# Altium integrated library TI Power Management Power Modules.IntLib: 831 symbols (part 5 of 44)
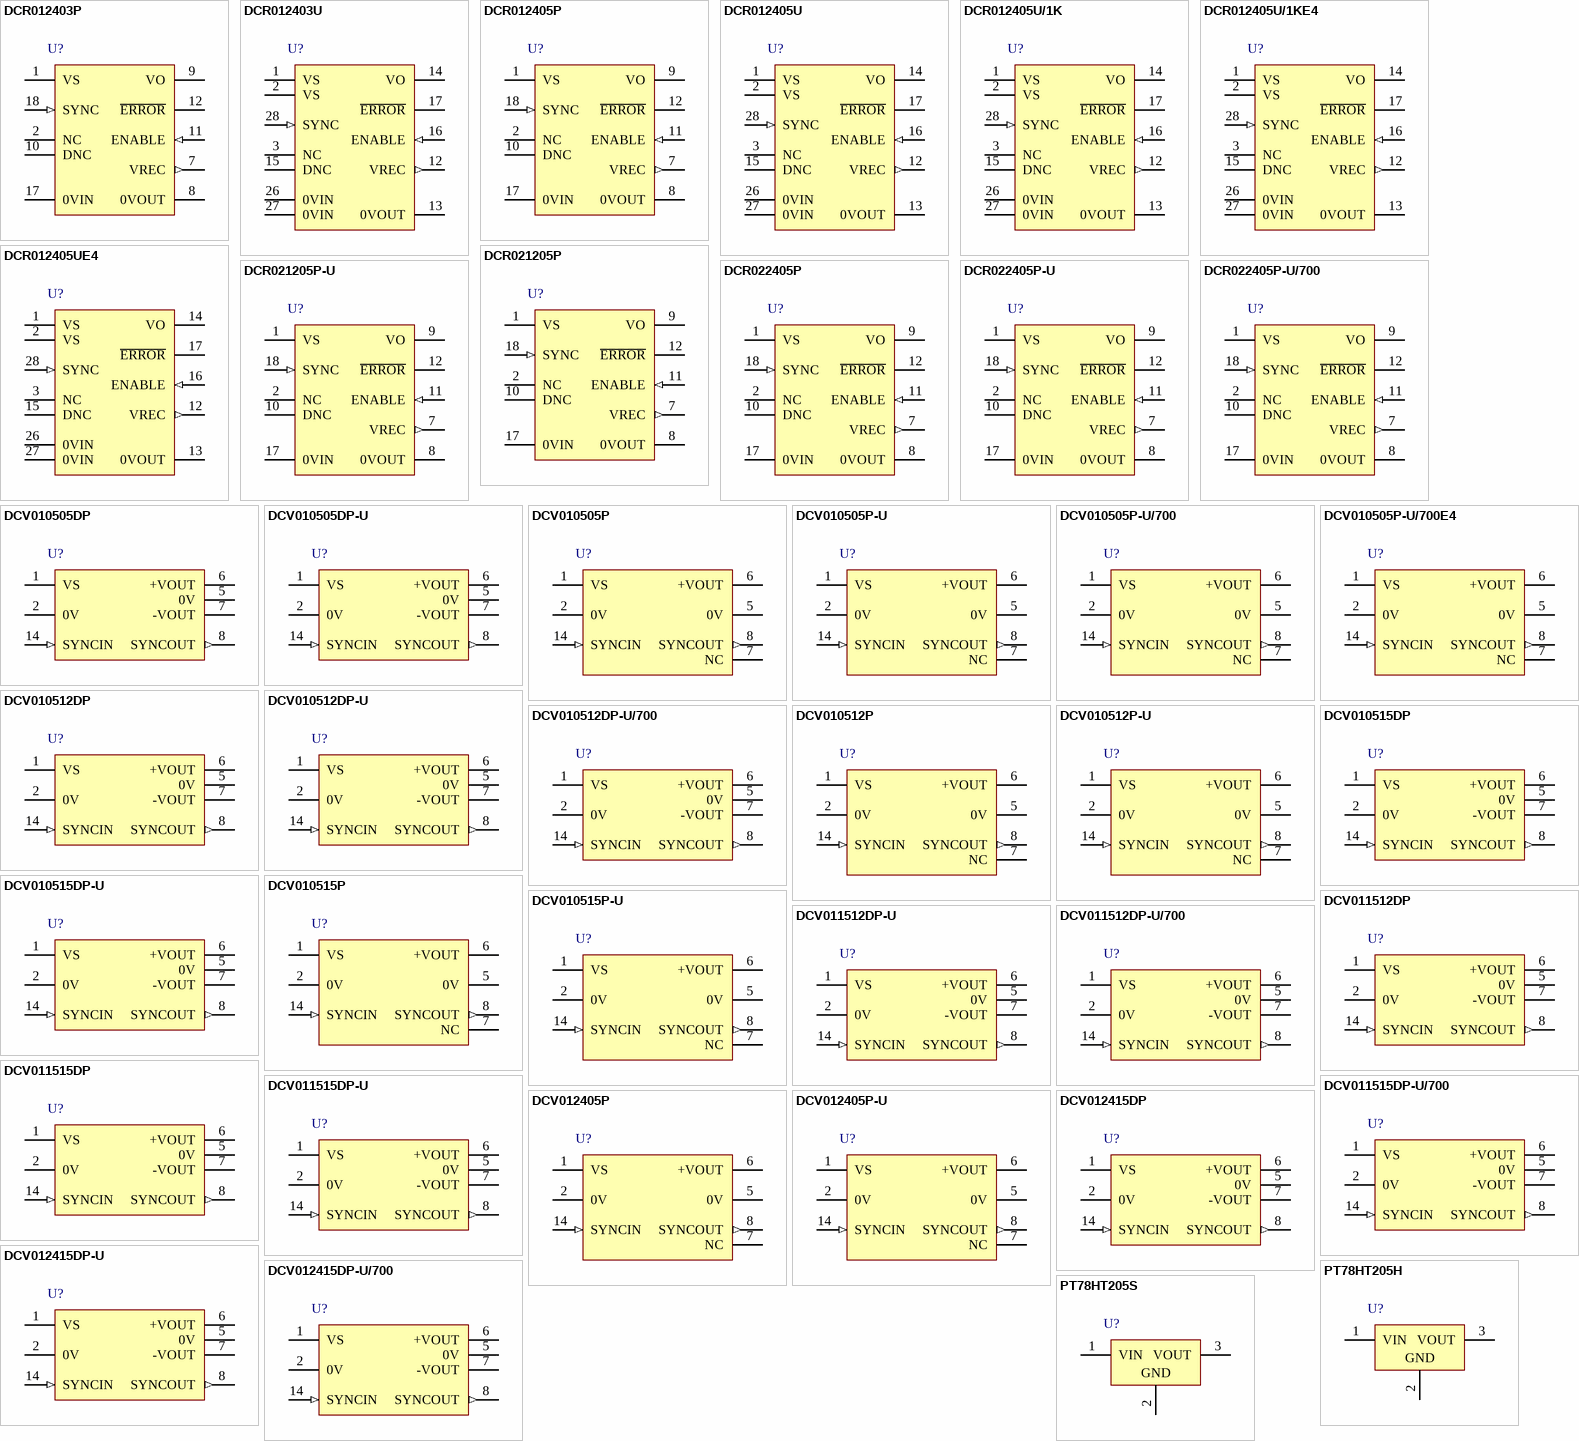
[diagram p27: symbols DCR012403P to PT78HT205S]

## DCV010505P-U/700
designator U?
Miniature, 1 W, 1500 Vrms Isolated Unregulated DC-DC Converter, -40 to 85 degC, 7-pin SOP (DUA7), Pb-Free (RoHS); Manufacturer: Texas Instruments; PartNumber: DCV010505P-U/700; Iout(Max)(A): 0.2; Regulated Outputs(#): 1; SubFamily: 1 W & 2 W Miniature; Vin(Max)(V): 5.5; Vin(Min)(V): 4.5; Vout(Max)(V): 5.25; Vout(Min)(V): 4.75; DatasheetVersion: SBVS014; PackageVersion: 4202490/B; PackageReference: DUA7; PackageDescription: 7-Pin Plastic Small Outline, Body 6.61 x 19.18 mm; Supplier 1: Digi-Key; Supplier Part Number 1: DCV010505P-U/700-ND; Supplier 2: Newark; Supplier Part Number 2: 74C9385; Supplier 3: Mouser; Supplier Part Number 3: 595-DCV010505P-U/700; Eco-Plan: Pb-Free (RoHS); Mounting Technology: Surface Mount; ComponentLink1Description: Manufacturer URL; ComponentLink1URL: http://www.ti.com/; ComponentLink2Description: Datasheet; ComponentLink2URL: http://www.ti.com/general/docs/lit/getliterature.tsp?genericPartNumber=DCV010505&fileType=pdf; ComponentLink3Description: Package Specification; ComponentLink3URL: http://www.ti.com/lit/ml/mpds097a/mpds097a.pdf; ComponentLink4Description: URL Link1; ComponentLink4URL: Samples URL:http://www.ti.com/product/dcv010505#samples
footprint TI-DUA7_N (SOP, 7-Leads, Body 19.18x6.605mm, Pitch 2.54mm, IPC Medium Density)
footprint TI-DUA7_L (SOP, 7-Leads, Body 19.18x6.605mm, Pitch 2.54mm, IPC High Density)
footprint TI-DUA7_M (SOP, 7-Leads, Body 19.18x6.605mm, Pitch 2.54mm, IPC Low Density)
pins: 1 VS (power) "Voltage input", 2 0V (power) "Input side common", 5 0V (power) "Output side common", 6 +VOUT (power) "+Voltage Out", 7 NC "Not connected", 8 SYNCOUT (out) "Unrectified transformer output", 14 SYNCIN (in) "Synchronization pin"

## DCV010505P-U/700E4
designator U?
Miniature, 1 W, 1500 Vrms Isolated Unregulated DC-DC Converter, -40 to 85 degC, 7-pin SOP (DUA7), Pb-Free (RoHS); Manufacturer: Texas Instruments; PartNumber: DCV010505P-U/700E4; Iout(Max)(A): 0.2; Regulated Outputs(#): 1; SubFamily: 1 W & 2 W Miniature; Vin(Max)(V): 5.5; Vin(Min)(V): 4.5; Vout(Max)(V): 5.25; Vout(Min)(V): 4.75; DatasheetVersion: SBVS014; PackageVersion: 4202490/B; PackageReference: DUA7; PackageDescription: 7-Pin Plastic Small Outline, Body 6.61 x 19.18 mm; Supplier 1: Digi-Key; Supplier Part Number 1: DCV010505P-U/700E4-ND; Supplier 2: Mouser; Supplier Part Number 2: 595-DCV010505PU700E4; Eco-Plan: Pb-Free (RoHS); Mounting Technology: Surface Mount; ComponentLink1Description: Manufacturer URL; ComponentLink1URL: http://www.ti.com/; ComponentLink2Description: Datasheet; ComponentLink2URL: http://www.ti.com/general/docs/lit/getliterature.tsp?genericPartNumber=DCV010505&fileType=pdf; ComponentLink3Description: Package Specification; ComponentLink3URL: http://www.ti.com/lit/ml/mpds097a/mpds097a.pdf; ComponentLink4Description: URL Link1; ComponentLink4URL: Samples URL:http://www.ti.com/product/dcv010505
footprint TI-DUA7_N (SOP, 7-Leads, Body 19.18x6.605mm, Pitch 2.54mm, IPC Medium Density)
footprint TI-DUA7_L (SOP, 7-Leads, Body 19.18x6.605mm, Pitch 2.54mm, IPC High Density)
footprint TI-DUA7_M (SOP, 7-Leads, Body 19.18x6.605mm, Pitch 2.54mm, IPC Low Density)
pins: 1 VS (power) "Voltage input", 2 0V (power) "Input side common", 5 0V (power) "Output side common", 6 +VOUT (power) "+Voltage Out", 7 NC "Not connected", 8 SYNCOUT (out) "Unrectified transformer output", 14 SYNCIN (in) "Synchronization pin"

## DCV010512DP
designator U?
Miniature, 1 W, 1500 Vrms Isolated Unregulated DC-DC Converter, -40 to 85 degC, 7-pin DIP (NVA7), Pb-Free (RoHS); Manufacturer: Texas Instruments; PartNumber: DCV010512DP; Iout(Max)(A): 0.041; Regulated Outputs(#): 2; SubFamily: 1 W & 2 W Miniature; Vin(Max)(V): 5.5; Vin(Min)(V): 4.5; Vout(Max)(V): 12.6; Vout(Min)(V): 11.4; DatasheetVersion: SBVS014; PackageVersion: 4202489/B; PackageReference: NVA7; PackageDescription: 7-Pin Plastic In-Line, Body 6.61 x 19.18 mm; Supplier 1: Digi-Key; Supplier Part Number 1: DCV010512DP-ND; Supplier 2: Farnell; Supplier Part Number 2: 1516846; Supplier 3: Newark; Supplier Part Number 3: 74C9386; Supplier 4: Mouser; Supplier Part Number 4: 595-DCV010512DP; Eco-Plan: Pb-Free (RoHS); Mounting Technology: Through Hole; Code_JEDEC: MS-001-AA; ComponentLink1Description: Manufacturer URL; ComponentLink1URL: http://www.ti.com/; ComponentLink2Description: Datasheet; ComponentLink2URL: http://www.ti.com/general/docs/lit/getliterature.tsp?genericPartNumber=DCV010512D&fileType=pdf; ComponentLink3Description: Package Specification; ComponentLink3URL: http://www.ti.com/lit/ml/mpdi058a/mpdi058a.pdf; ComponentLink4Description: URL Link1; ComponentLink4URL: Samples URL:http://www.ti.com/product/dcv010512d#samples
footprint TI-NVA7 (DIP, 7-Leads, Body 19.18x6.605mm, Pitch 2.54mm)
pins: 1 VS (power) "Voltage input", 2 0V (power) "Input side common", 5 0V (power) "Output side common", 6 +VOUT (power) "+Voltage out", 7 -VOUT (power) "-Voltage out", 8 SYNCOUT (out) "Unrectified transformer output", 14 SYNCIN (in) "Synchronization pin"

## DCV010512DP-U
designator U?
Miniature, 1 W, 1500 Vrms Isolated Unregulated DC-DC Converter, -40 to 85 degC, 7-pin SOP (DUA7), Pb-Free (RoHS); Manufacturer: Texas Instruments; PartNumber: DCV010512DP-U; Iout(Max)(A): 0.041; Regulated Outputs(#): 2; SubFamily: 1 W & 2 W Miniature; Vin(Max)(V): 5.5; Vin(Min)(V): 4.5; Vout(Max)(V): 12.6; Vout(Min)(V): 11.4; DatasheetVersion: SBVS014; PackageVersion: 4202490/B; PackageReference: DUA7; PackageDescription: 7-Pin Plastic Small Outline, Body 6.61 x 19.18 mm; Supplier 1: Digi-Key; Supplier Part Number 1: DCV010512DP-U-ND; Supplier 2: Newark; Supplier Part Number 2: 74C9387; Supplier 3: Mouser; Supplier Part Number 3: 595-DCV010512DP-U; Eco-Plan: Pb-Free (RoHS); Mounting Technology: Surface Mount; ComponentLink1Description: Manufacturer URL; ComponentLink1URL: http://www.ti.com/; ComponentLink2Description: Datasheet; ComponentLink2URL: http://www.ti.com/general/docs/lit/getliterature.tsp?genericPartNumber=DCV010512D&fileType=pdf; ComponentLink3Description: Package Specification; ComponentLink3URL: http://www.ti.com/lit/ml/mpds097a/mpds097a.pdf; ComponentLink4Description: URL Link1; ComponentLink4URL: Samples URL:http://www.ti.com/product/dcv010512d#samples
footprint TI-DUA7_N (SOP, 7-Leads, Body 19.18x6.605mm, Pitch 2.54mm, IPC Medium Density)
footprint TI-DUA7_L (SOP, 7-Leads, Body 19.18x6.605mm, Pitch 2.54mm, IPC High Density)
footprint TI-DUA7_M (SOP, 7-Leads, Body 19.18x6.605mm, Pitch 2.54mm, IPC Low Density)
pins: 1 VS (power) "Voltage input", 2 0V (power) "Input side common", 5 0V (power) "Output side common", 6 +VOUT (power) "+Voltage out", 7 -VOUT (power) "-Voltage out", 8 SYNCOUT (out) "Unrectified transformer output", 14 SYNCIN (in) "Synchronization pin"

## DCV010512DP-U/700
designator U?
Miniature, 1 W, 1500 Vrms Isolated Unregulated DC-DC Converter, -40 to 85 degC, 7-pin SOP (DUA7), Pb-Free (RoHS); Manufacturer: Texas Instruments; PartNumber: DCV010512DP-U/700; Iout(Max)(A): 0.041; Regulated Outputs(#): 2; SubFamily: 1 W & 2 W Miniature; Vin(Max)(V): 5.5; Vin(Min)(V): 4.5; Vout(Max)(V): 12.6; Vout(Min)(V): 11.4; DatasheetVersion: SBVS014; PackageVersion: 4202490/B; PackageReference: DUA7; PackageDescription: 7-Pin Plastic Small Outline, Body 6.61 x 19.18 mm; Supplier 1: Digi-Key; Supplier Part Number 1: DCV010512DP-U/700-ND; Supplier 2: Newark; Supplier Part Number 2: 74C9388; Supplier 3: Mouser; Supplier Part Number 3: 595-DCV010512DPU/700; Eco-Plan: Pb-Free (RoHS); Mounting Technology: Surface Mount; ComponentLink1Description: Manufacturer URL; ComponentLink1URL: http://www.ti.com/; ComponentLink2Description: Datasheet; ComponentLink2URL: http://www.ti.com/general/docs/lit/getliterature.tsp?genericPartNumber=DCV010512D&fileType=pdf; ComponentLink3Description: Package Specification; ComponentLink3URL: http://www.ti.com/lit/ml/mpds097a/mpds097a.pdf; ComponentLink4Description: URL Link1; ComponentLink4URL: Samples URL:http://www.ti.com/product/tps55010#samples
footprint TI-DUA7_N (SOP, 7-Leads, Body 19.18x6.605mm, Pitch 2.54mm, IPC Medium Density)
footprint TI-DUA7_L (SOP, 7-Leads, Body 19.18x6.605mm, Pitch 2.54mm, IPC High Density)
footprint TI-DUA7_M (SOP, 7-Leads, Body 19.18x6.605mm, Pitch 2.54mm, IPC Low Density)
pins: 1 VS (power) "Voltage input", 2 0V (power) "Input side common", 5 0V (power) "Output side common", 6 +VOUT (power) "+Voltage out", 7 -VOUT (power) "-Voltage out", 8 SYNCOUT (out) "Unrectified transformer output", 14 SYNCIN (in) "Synchronization pin"

## DCV010512P
designator U?
Miniature, 1 W, 1500 Vrms Isolated Unregulated DC-DC Converter, -40 to 85 degC, 7-pin DIP (NVA7), Pb-Free (RoHS); Manufacturer: Texas Instruments; PartNumber: DCV010512P; Iout(Max)(A): 0.083; Regulated Outputs(#): 1; SubFamily: 1 W & 2 W Miniature; Vin(Max)(V): 5.5; Vin(Min)(V): 4.5; Vout(Max)(V): 12.6; Vout(Min)(V): 11.4; DatasheetVersion: SBVS014; PackageVersion: 4202489/B; PackageReference: NVA7; PackageDescription: 7-Pin Plastic In-Line, Body 6.61 x 19.18 mm; Supplier 1: Digi-Key; Supplier Part Number 1: DCV010512P-ND; Supplier 2: Newark; Supplier Part Number 2: 74C9389; Supplier 3: Mouser; Supplier Part Number 3: 595-DCV010512P; Eco-Plan: Pb-Free (RoHS); Mounting Technology: Through Hole; Code_JEDEC: MS-001-AA; ComponentLink1Description: Manufacturer URL; ComponentLink1URL: http://www.ti.com/; ComponentLink2Description: Datasheet; ComponentLink2URL: http://www.ti.com/general/docs/lit/getliterature.tsp?genericPartNumber=DCV010512&fileType=pdf; ComponentLink3Description: Package Specification; ComponentLink3URL: http://www.ti.com/lit/ml/mpdi058a/mpdi058a.pdf; ComponentLink4Description: URL Link1; ComponentLink4URL: Samples URL:http://www.ti.com/product/dcv010512#samples
footprint TI-NVA7 (DIP, 7-Leads, Body 19.18x6.605mm, Pitch 2.54mm)
pins: 1 VS (power) "Voltage input", 2 0V (power) "Input side common", 5 0V (power) "Output side common", 6 +VOUT (power) "+Voltage Out", 7 NC "Not connected", 8 SYNCOUT (out) "Unrectified transformer output", 14 SYNCIN (in) "Synchronization pin"

## DCV010512P-U
designator U?
Miniature, 1 W, 1500 Vrms Isolated Unregulated DC-DC Converter, -40 to 85 degC, 7-pin SOP (DUA7), Pb-Free (RoHS); Manufacturer: Texas Instruments; PartNumber: DCV010512P-U; Iout(Max)(A): 0.083; Regulated Outputs(#): 1; SubFamily: 1 W & 2 W Miniature; Vin(Max)(V): 5.5; Vin(Min)(V): 4.5; Vout(Max)(V): 12.6; Vout(Min)(V): 11.4; DatasheetVersion: SBVS014; PackageVersion: 4202490/B; PackageReference: DUA7; PackageDescription: 7-Pin Plastic Small Outline, Body 6.61 x 19.18 mm; Supplier 1: Digi-Key; Supplier Part Number 1: DCV010512P-U-ND; Supplier 2: Newark; Supplier Part Number 2: 74C9390; Supplier 3: Mouser; Supplier Part Number 3: 595-DCV010512P-U; Eco-Plan: Pb-Free (RoHS); Mounting Technology: Surface Mount; ComponentLink1Description: Manufacturer URL; ComponentLink1URL: http://www.ti.com/; ComponentLink2Description: Datasheet; ComponentLink2URL: http://www.ti.com/general/docs/lit/getliterature.tsp?genericPartNumber=DCV010512&fileType=pdf; ComponentLink3Description: Package Specification; ComponentLink3URL: http://www.ti.com/lit/ml/mpds097a/mpds097a.pdf; ComponentLink4Description: URL Link1; ComponentLink4URL: Samples URL:http://www.ti.com/product/tps55010#samples
footprint TI-DUA7_N (SOP, 7-Leads, Body 19.18x6.605mm, Pitch 2.54mm, IPC Medium Density)
footprint TI-DUA7_L (SOP, 7-Leads, Body 19.18x6.605mm, Pitch 2.54mm, IPC High Density)
footprint TI-DUA7_M (SOP, 7-Leads, Body 19.18x6.605mm, Pitch 2.54mm, IPC Low Density)
pins: 1 VS (power) "Voltage input", 2 0V (power) "Input side common", 5 0V (power) "Output side common", 6 +VOUT (power) "+Voltage Out", 7 NC "Not connected", 8 SYNCOUT (out) "Unrectified transformer output", 14 SYNCIN (in) "Synchronization pin"

## DCV010515DP
designator U?
Miniature, 1 W, 1500 Vrms Isolated Unregulated DC-DC Converter, -40 to 85 degC, 7-pin DIP (NVA7), Pb-Free (RoHS); Manufacturer: Texas Instruments; PartNumber: DCV010515DP; Iout(Max)(A): 0.033; Regulated Outputs(#): 2; SubFamily: 1 W & 2 W Miniature; Vin(Max)(V): 5.5; Vin(Min)(V): 4.5; Vout(Max)(V): 15.75; Vout(Min)(V): 14.25; DatasheetVersion: SBVS014; PackageVersion: 4202489/B; PackageReference: NVA7; PackageDescription: 7-Pin Plastic In-Line, Body 6.61 x 19.18 mm; Supplier 1: Digi-Key; Supplier Part Number 1: DCV010515DP-ND; Supplier 2: Newark; Supplier Part Number 2: 74M8286; Supplier 3: Mouser; Supplier Part Number 3: 595-DCV010515DP; Eco-Plan: Pb-Free (RoHS); Mounting Technology: Through Hole; Code_JEDEC: MS-001-AA; ComponentLink1Description: Manufacturer URL; ComponentLink1URL: http://www.ti.com/; ComponentLink2Description: Datasheet; ComponentLink2URL: http://www.ti.com/general/docs/lit/getliterature.tsp?genericPartNumber=DCV010515D&fileType=pdf; ComponentLink3Description: Package Specification; ComponentLink3URL: http://www.ti.com/lit/ml/mpdi058a/mpdi058a.pdf; ComponentLink4Description: URL Link1; ComponentLink4URL: Samples URL:http://www.ti.com/product/dcv010515d#samples
footprint TI-NVA7 (DIP, 7-Leads, Body 19.18x6.605mm, Pitch 2.54mm)
pins: 1 VS (power) "Voltage input", 2 0V (power) "Input side common", 5 0V (power) "Output side common", 6 +VOUT (power) "+Voltage out", 7 -VOUT (power) "-Voltage out", 8 SYNCOUT (out) "Unrectified transformer output", 14 SYNCIN (in) "Synchronization pin"

## DCV010515DP-U
designator U?
Miniature, 1 W, 1500 Vrms Isolated Unregulated DC-DC Converter, -40 to 85 degC, 7-pin SOP (DUA7), Pb-Free (RoHS); Manufacturer: Texas Instruments; PartNumber: DCV010515DP-U; Iout(Max)(A): 0.033; Regulated Outputs(#): 2; SubFamily: 1 W & 2 W Miniature; Vin(Max)(V): 5.5; Vin(Min)(V): 4.5; Vout(Max)(V): 15.75; Vout(Min)(V): 14.25; DatasheetVersion: SBVS014; PackageVersion: 4202490/B; PackageReference: DUA7; PackageDescription: 7-Pin Plastic Small Outline, Body 6.61 x 19.18 mm; Supplier 1: Digi-Key; Supplier Part Number 1: DCV010515DP-U-ND; Supplier 2: Newark; Supplier Part Number 2: 74C9393; Supplier 3: Mouser; Supplier Part Number 3: 595-DCV010515DP-U; Eco-Plan: Pb-Free (RoHS); Mounting Technology: Surface Mount; ComponentLink1Description: Manufacturer URL; ComponentLink1URL: http://www.ti.com/; ComponentLink2Description: Datasheet; ComponentLink2URL: http://www.ti.com/general/docs/lit/getliterature.tsp?genericPartNumber=DCV010515D&fileType=pdf; ComponentLink3Description: Package Specification; ComponentLink3URL: http://www.ti.com/lit/ml/mpds097a/mpds097a.pdf; ComponentLink4Description: URL Link1; ComponentLink4URL: Samples URL:http://www.ti.com/product/tps55010#samples
footprint TI-DUA7_N (SOP, 7-Leads, Body 19.18x6.605mm, Pitch 2.54mm, IPC Medium Density)
footprint TI-DUA7_L (SOP, 7-Leads, Body 19.18x6.605mm, Pitch 2.54mm, IPC High Density)
footprint TI-DUA7_M (SOP, 7-Leads, Body 19.18x6.605mm, Pitch 2.54mm, IPC Low Density)
pins: 1 VS (power) "Voltage input", 2 0V (power) "Input side common", 5 0V (power) "Output side common", 6 +VOUT (power) "+Voltage out", 7 -VOUT (power) "-Voltage out", 8 SYNCOUT (out) "Unrectified transformer output", 14 SYNCIN (in) "Synchronization pin"

## DCV010515P
designator U?
Miniature, 1 W, 1500 Vrms Isolated Unregulated DC-DC Converter, -40 to 85 degC, 7-pin DIP (NVA7), Pb-Free (RoHS); Manufacturer: Texas Instruments; PartNumber: DCV010515P; Iout(Max)(A): 0.067; Regulated Outputs(#): 1; SubFamily: 1 W & 2 W Miniature; Vin(Max)(V): 5.5; Vin(Min)(V): 4.5; Vout(Max)(V): 15.75; Vout(Min)(V): 14.25; DatasheetVersion: SBVS014; PackageVersion: 4202489/B; PackageReference: NVA7; PackageDescription: 7-Pin Plastic In-Line, Body 6.61 x 19.18 mm; Supplier 1: Digi-Key; Supplier Part Number 1: DCV010515P-ND; Supplier 2: Newark; Supplier Part Number 2: 74C9395; Supplier 3: Mouser; Supplier Part Number 3: 595-DCV010515P; Eco-Plan: Pb-Free (RoHS); Mounting Technology: Through Hole; Code_JEDEC: MS-001-AA; ComponentLink1Description: Manufacturer URL; ComponentLink1URL: http://www.ti.com/; ComponentLink2Description: Datasheet; ComponentLink2URL: http://www.ti.com/general/docs/lit/getliterature.tsp?genericPartNumber=DCV010515&fileType=pdf; ComponentLink3Description: Package Specification; ComponentLink3URL: http://www.ti.com/lit/ml/mpdi058a/mpdi058a.pdf; ComponentLink4Description: URL Link1; ComponentLink4URL: Samples URL:http://www.ti.com/product/dcv010515#samples
footprint TI-NVA7 (DIP, 7-Leads, Body 19.18x6.605mm, Pitch 2.54mm)
pins: 1 VS (power) "Voltage input", 2 0V (power) "Input side common", 5 0V (power) "Output side common", 6 +VOUT (power) "+Voltage Out", 7 NC "Not connected", 8 SYNCOUT (out) "Unrectified transformer output", 14 SYNCIN (in) "Synchronization pin"

## DCV010515P-U
designator U?
Miniature, 1 W, 1500 Vrms Isolated Unregulated DC-DC Converter, -40 to 85 degC, 7-pin SOP (DUA7), Pb-Free (RoHS); Manufacturer: Texas Instruments; PartNumber: DCV010515P-U; Iout(Max)(A): 0.067; Regulated Outputs(#): 1; SubFamily: 1 W & 2 W Miniature; Vin(Max)(V): 5.5; Vin(Min)(V): 4.5; Vout(Max)(V): 15.75; Vout(Min)(V): 14.25; DatasheetVersion: SBVS014; PackageVersion: 4202490/B; PackageReference: DUA7; PackageDescription: 7-Pin Plastic Small Outline, Body 6.61 x 19.18 mm; Supplier 1: Digi-Key; Supplier Part Number 1: DCV010515P-U-ND; Supplier 2: Newark; Supplier Part Number 2: 74C9396; Supplier 3: Mouser; Supplier Part Number 3: 595-DCV010515P-U; Eco-Plan: Pb-Free (RoHS); Mounting Technology: Surface Mount; ComponentLink1Description: Manufacturer URL; ComponentLink1URL: http://www.ti.com/; ComponentLink2Description: Datasheet; ComponentLink2URL: http://www.ti.com/general/docs/lit/getliterature.tsp?genericPartNumber=DCV010515&fileType=pdf; ComponentLink3Description: Package Specification; ComponentLink3URL: http://www.ti.com/lit/ml/mpds097a/mpds097a.pdf; ComponentLink4Description: URL Link1; ComponentLink4URL: Samples URL:http://www.ti.com/product/tps55010#samples
footprint TI-DUA7_N (SOP, 7-Leads, Body 19.18x6.605mm, Pitch 2.54mm, IPC Medium Density)
footprint TI-DUA7_L (SOP, 7-Leads, Body 19.18x6.605mm, Pitch 2.54mm, IPC High Density)
footprint TI-DUA7_M (SOP, 7-Leads, Body 19.18x6.605mm, Pitch 2.54mm, IPC Low Density)
pins: 1 VS (power) "Voltage input", 2 0V (power) "Input side common", 5 0V (power) "Output side common", 6 +VOUT (power) "+Voltage Out", 7 NC "Not connected", 8 SYNCOUT (out) "Unrectified transformer output", 14 SYNCIN (in) "Synchronization pin"

## DCV011512DP
designator U?
Miniature, 1 W, 1500 Vrms Isolated Unregulated DC-DC Converter, -40 to 85 degC, 7-pin DIP (NVA7), Pb-Free (RoHS); Manufacturer: Texas Instruments; PartNumber: DCV011512DP; Iout(Max)(A): 0.041; Regulated Outputs(#): 2; SubFamily: 1 W & 2 W Miniature; Vin(Max)(V): 16.5; Vin(Min)(V): 13.5; Vout(Max)(V): 12.6; Vout(Min)(V): 11.4; DatasheetVersion: SBVS014; PackageVersion: 4202489/B; PackageReference: NVA7; PackageDescription: 7-Pin Plastic In-Line, Body 6.61 x 19.18 mm; Supplier 1: Digi-Key; Supplier Part Number 1: DCV011512DP-ND; Supplier 2: Newark; Supplier Part Number 2: 74C9398; Supplier 3: Mouser; Supplier Part Number 3: 595-DCV011512DP; Eco-Plan: Pb-Free (RoHS); Mounting Technology: Through Hole; Code_JEDEC: MS-001-AA; ComponentLink1Description: Manufacturer URL; ComponentLink1URL: http://www.ti.com/; ComponentLink2Description: Datasheet; ComponentLink2URL: http://www.ti.com/general/docs/lit/getliterature.tsp?genericPartNumber=DCV011512D&fileType=pdf; ComponentLink3Description: Package Specification; ComponentLink3URL: http://www.ti.com/lit/ml/mpdi058a/mpdi058a.pdf; ComponentLink4Description: URL Link1; ComponentLink4URL: Samples URL:http://www.ti.com/product/dcv011512d#samples
footprint TI-NVA7 (DIP, 7-Leads, Body 19.18x6.605mm, Pitch 2.54mm)
pins: 1 VS (power) "Voltage input", 2 0V (power) "Input side common", 5 0V (power) "Output side common", 6 +VOUT (power) "+Voltage out", 7 -VOUT (power) "-Voltage out", 8 SYNCOUT (out) "Unrectified transformer output", 14 SYNCIN (in) "Synchronization pin"

## DCV011512DP-U
designator U?
Miniature, 1 W, 1500 Vrms Isolated Unregulated DC-DC Converter, -40 to 85 degC, 7-pin SOP (DUA7), Pb-Free (RoHS); Manufacturer: Texas Instruments; PartNumber: DCV011512DP-U; Iout(Max)(A): 0.041; Regulated Outputs(#): 2; SubFamily: 1 W & 2 W Miniature; Vin(Max)(V): 16.5; Vin(Min)(V): 13.5; Vout(Max)(V): 12.6; Vout(Min)(V): 11.4; DatasheetVersion: SBVS014; PackageVersion: 4202490/B; PackageReference: DUA7; PackageDescription: 7-Pin Plastic Small Outline, Body 6.61 x 19.18 mm; Supplier 1: Digi-Key; Supplier Part Number 1: DCV011512DP-U-ND; Supplier 2: Newark; Supplier Part Number 2: 74C9399; Supplier 3: Mouser; Supplier Part Number 3: 595-DCV011512DP-U; Eco-Plan: Pb-Free (RoHS); Mounting Technology: Surface Mount; ComponentLink1Description: Manufacturer URL; ComponentLink1URL: http://www.ti.com/; ComponentLink2Description: Datasheet; ComponentLink2URL: http://www.ti.com/general/docs/lit/getliterature.tsp?genericPartNumber=DCV011512D&fileType=pdf; ComponentLink3Description: Package Specification; ComponentLink3URL: http://www.ti.com/lit/ml/mpds097a/mpds097a.pdf; ComponentLink4Description: URL Link1; ComponentLink4URL: Samples URL:http://www.ti.com/product/dcv011512d#samples
footprint TI-DUA7_N (SOP, 7-Leads, Body 19.18x6.605mm, Pitch 2.54mm, IPC Medium Density)
footprint TI-DUA7_L (SOP, 7-Leads, Body 19.18x6.605mm, Pitch 2.54mm, IPC High Density)
footprint TI-DUA7_M (SOP, 7-Leads, Body 19.18x6.605mm, Pitch 2.54mm, IPC Low Density)
pins: 1 VS (power) "Voltage input", 2 0V (power) "Input side common", 5 0V (power) "Output side common", 6 +VOUT (power) "+Voltage out", 7 -VOUT (power) "-Voltage out", 8 SYNCOUT (out) "Unrectified transformer output", 14 SYNCIN (in) "Synchronization pin"

## DCV011512DP-U/700
designator U?
Miniature, 1 W, 1500 Vrms Isolated Unregulated DC-DC Converter, -40 to 85 degC, 7-pin SOP (DUA7), Pb-Free (RoHS); Manufacturer: Texas Instruments; PartNumber: DCV011512DP-U/700; Iout(Max)(A): 0.041; Regulated Outputs(#): 2; SubFamily: 1 W & 2 W Miniature; Vin(Max)(V): 16.5; Vin(Min)(V): 13.5; Vout(Max)(V): 12.6; Vout(Min)(V): 11.4; DatasheetVersion: SBVS014; PackageVersion: 4202490/B; PackageReference: DUA7; PackageDescription: 7-Pin Plastic Small Outline, Body 6.61 x 19.18 mm; Supplier 1: Digi-Key; Supplier Part Number 1: DCV011512DP-UTR-ND; Supplier 2: Newark; Supplier Part Number 2: 74C9400; Supplier 3: Mouser; Supplier Part Number 3: 595-DCV011512DPU/700; Eco-Plan: Pb-Free (RoHS); Mounting Technology: Surface Mount; ComponentLink1Description: Manufacturer URL; ComponentLink1URL: http://www.ti.com/; ComponentLink2Description: Datasheet; ComponentLink2URL: http://www.ti.com/general/docs/lit/getliterature.tsp?genericPartNumber=DCV011512D&fileType=pdf; ComponentLink3Description: Package Specification; ComponentLink3URL: http://www.ti.com/lit/ml/mpds097a/mpds097a.pdf; ComponentLink4Description: URL Link1; ComponentLink4URL: Samples URL:http://www.ti.com/product/tps55010#samples
footprint TI-DUA7_N (SOP, 7-Leads, Body 19.18x6.605mm, Pitch 2.54mm, IPC Medium Density)
footprint TI-DUA7_L (SOP, 7-Leads, Body 19.18x6.605mm, Pitch 2.54mm, IPC High Density)
footprint TI-DUA7_M (SOP, 7-Leads, Body 19.18x6.605mm, Pitch 2.54mm, IPC Low Density)
pins: 1 VS (power) "Voltage input", 2 0V (power) "Input side common", 5 0V (power) "Output side common", 6 +VOUT (power) "+Voltage out", 7 -VOUT (power) "-Voltage out", 8 SYNCOUT (out) "Unrectified transformer output", 14 SYNCIN (in) "Synchronization pin"

## DCV011515DP
designator U?
Miniature, 1 W, 1500 Vrms Isolated Unregulated DC-DC Converter, -40 to 85 degC, 7-pin DIP (NVA7), Pb-Free (RoHS); Manufacturer: Texas Instruments; PartNumber: DCV011515DP; Iout(Max)(A): 0.033; Regulated Outputs(#): 2; SubFamily: 1 W & 2 W Miniature; Vin(Max)(V): 16.5; Vin(Min)(V): 13.5; Vout(Max)(V): 15.75; Vout(Min)(V): 14.25; DatasheetVersion: SBVS014; PackageVersion: 4202489/B; PackageReference: NVA7; PackageDescription: 7-Pin Plastic In-Line, Body 6.61 x 19.18 mm; Supplier 1: Digi-Key; Supplier Part Number 1: DCV011515DP-ND; Supplier 2: Newark; Supplier Part Number 2: 74C9401; Supplier 3: Mouser; Supplier Part Number 3: 595-DCV011515DP; Eco-Plan: Pb-Free (RoHS); Mounting Technology: Through Hole; Code_JEDEC: MS-001-AA; ComponentLink1Description: Manufacturer URL; ComponentLink1URL: http://www.ti.com/; ComponentLink2Description: Datasheet; ComponentLink2URL: http://www.ti.com/general/docs/lit/getliterature.tsp?genericPartNumber=DCV011515D&fileType=pdf; ComponentLink3Description: Package Specification; ComponentLink3URL: http://www.ti.com/lit/ml/mpdi058a/mpdi058a.pdf; ComponentLink4Description: URL Link1; ComponentLink4URL: Samples URL:http://www.ti.com/product/dcv011515d#samples
footprint TI-NVA7 (DIP, 7-Leads, Body 19.18x6.605mm, Pitch 2.54mm)
pins: 1 VS (power) "Voltage input", 2 0V (power) "Input side common", 5 0V (power) "Output side common", 6 +VOUT (power) "+Voltage out", 7 -VOUT (power) "-Voltage out", 8 SYNCOUT (out) "Unrectified transformer output", 14 SYNCIN (in) "Synchronization pin"

## DCV011515DP-U
designator U?
Miniature, 1 W, 1500 Vrms Isolated Unregulated DC-DC Converter, -40 to 85 degC, 7-pin SOP (DUA7), Pb-Free (RoHS); Manufacturer: Texas Instruments; PartNumber: DCV011515DP-U; Iout(Max)(A): 0.033; Regulated Outputs(#): 2; SubFamily: 1 W & 2 W Miniature; Vin(Max)(V): 16.5; Vin(Min)(V): 13.5; Vout(Max)(V): 15.75; Vout(Min)(V): 14.25; DatasheetVersion: SBVS014; PackageVersion: 4202490/B; PackageReference: DUA7; PackageDescription: 7-Pin Plastic Small Outline, Body 6.61 x 19.18 mm; Supplier 1: Digi-Key; Supplier Part Number 1: DCV011515DP-U-ND; Supplier 2: Newark; Supplier Part Number 2: 74C9402; Supplier 3: Mouser; Supplier Part Number 3: 595-DCV011515DP-U; Eco-Plan: Pb-Free (RoHS); Mounting Technology: Surface Mount; ComponentLink1Description: Manufacturer URL; ComponentLink1URL: http://www.ti.com/; ComponentLink2Description: Datasheet; ComponentLink2URL: http://www.ti.com/general/docs/lit/getliterature.tsp?genericPartNumber=DCV011515D&fileType=pdf; ComponentLink3Description: Package Specification; ComponentLink3URL: http://www.ti.com/lit/ml/mpds097a/mpds097a.pdf; ComponentLink4Description: URL Link1; ComponentLink4URL: Samples URL:http://www.ti.com/product/dcv011515d#samples
footprint TI-DUA7_N (SOP, 7-Leads, Body 19.18x6.605mm, Pitch 2.54mm, IPC Medium Density)
footprint TI-DUA7_L (SOP, 7-Leads, Body 19.18x6.605mm, Pitch 2.54mm, IPC High Density)
footprint TI-DUA7_M (SOP, 7-Leads, Body 19.18x6.605mm, Pitch 2.54mm, IPC Low Density)
pins: 1 VS (power) "Voltage input", 2 0V (power) "Input side common", 5 0V (power) "Output side common", 6 +VOUT (power) "+Voltage out", 7 -VOUT (power) "-Voltage out", 8 SYNCOUT (out) "Unrectified transformer output", 14 SYNCIN (in) "Synchronization pin"

## DCV011515DP-U/700
designator U?
Miniature, 1 W, 1500 Vrms Isolated Unregulated DC-DC Converter, -40 to 85 degC, 7-pin SOP (DUA7), Pb-Free (RoHS); Manufacturer: Texas Instruments; PartNumber: DCV011515DP-U/700; Iout(Max)(A): 0.033; Regulated Outputs(#): 2; SubFamily: 1 W & 2 W Miniature; Vin(Max)(V): 16.5; Vin(Min)(V): 13.5; Vout(Max)(V): 15.75; Vout(Min)(V): 14.25; DatasheetVersion: SBVS014; PackageVersion: 4202490/B; PackageReference: DUA7; PackageDescription: 7-Pin Plastic Small Outline, Body 6.61 x 19.18 mm; Supplier 1: Digi-Key; Supplier Part Number 1: DCV011515DP-UTR-ND; Supplier 2: Newark; Supplier Part Number 2: 74C9403; Supplier 3: Mouser; Supplier Part Number 3: 595-DCV011515DPU/700; Eco-Plan: Pb-Free (RoHS); Mounting Technology: Surface Mount; ComponentLink1Description: Manufacturer URL; ComponentLink1URL: http://www.ti.com/; ComponentLink2Description: Datasheet; ComponentLink2URL: http://www.ti.com/general/docs/lit/getliterature.tsp?genericPartNumber=DCV011515D&fileType=pdf; ComponentLink3Description: Package Specification; ComponentLink3URL: http://www.ti.com/lit/ml/mpds097a/mpds097a.pdf; ComponentLink4Description: URL Link1; ComponentLink4URL: Samples URL:http://www.ti.com/product/tps55010#samples
footprint TI-DUA7_N (SOP, 7-Leads, Body 19.18x6.605mm, Pitch 2.54mm, IPC Medium Density)
footprint TI-DUA7_L (SOP, 7-Leads, Body 19.18x6.605mm, Pitch 2.54mm, IPC High Density)
footprint TI-DUA7_M (SOP, 7-Leads, Body 19.18x6.605mm, Pitch 2.54mm, IPC Low Density)
pins: 1 VS (power) "Voltage input", 2 0V (power) "Input side common", 5 0V (power) "Output side common", 6 +VOUT (power) "+Voltage out", 7 -VOUT (power) "-Voltage out", 8 SYNCOUT (out) "Unrectified transformer output", 14 SYNCIN (in) "Synchronization pin"

## DCV012405P
designator U?
Miniature, 1 W, 1500 Vrms Isolated Unregulated DC-DC Converter, -40 to 85 degC, 7-pin DIP (NVA7), Pb-Free (RoHS); Manufacturer: Texas Instruments; PartNumber: DCV012405P; Iout(Max)(A): 0.2; Regulated Outputs(#): 1; SubFamily: 1 W & 2 W Miniature; Vin(Max)(V): 26.4; Vin(Min)(V): 21.6; Vout(Max)(V): 5.25; Vout(Min)(V): 4.75; DatasheetVersion: SBVS014; PackageVersion: 4202489/B; PackageReference: NVA7; PackageDescription: 7-Pin Plastic In-Line, Body 6.61 x 19.18 mm; Supplier 1: Digi-Key; Supplier Part Number 1: DCV012405P-ND; Supplier 2: Newark; Supplier Part Number 2: 74C9404; Supplier 3: Mouser; Supplier Part Number 3: 595-DCV012405P; Eco-Plan: Pb-Free (RoHS); Mounting Technology: Through Hole; Code_JEDEC: MS-001-AA; ComponentLink1Description: Manufacturer URL; ComponentLink1URL: http://www.ti.com/; ComponentLink2Description: Datasheet; ComponentLink2URL: http://www.ti.com/general/docs/lit/getliterature.tsp?genericPartNumber=DCV012405&fileType=pdf; ComponentLink3Description: Package Specification; ComponentLink3URL: http://www.ti.com/lit/ml/mpdi058a/mpdi058a.pdf; ComponentLink4Description: URL Link1; ComponentLink4URL: Samples URL:http://www.ti.com/product/dcv012405#samples
footprint TI-NVA7 (DIP, 7-Leads, Body 19.18x6.605mm, Pitch 2.54mm)
pins: 1 VS (power) "Voltage input", 2 0V (power) "Input side common", 5 0V (power) "Output side common", 6 +VOUT (power) "+Voltage Out", 7 NC "Not connected", 8 SYNCOUT (out) "Unrectified transformer output", 14 SYNCIN (in) "Synchronization pin"

## DCV012405P-U
designator U?
Miniature, 1 W, 1500 Vrms Isolated Unregulated DC-DC Converter, -40 to 85 degC, 7-pin SOP (DUA7), Pb-Free (RoHS); Manufacturer: Texas Instruments; PartNumber: DCV012405P-U; Iout(Max)(A): 0.2; Regulated Outputs(#): 1; SubFamily: 1 W & 2 W Miniature; Vin(Max)(V): 26.4; Vin(Min)(V): 21.6; Vout(Max)(V): 5.25; Vout(Min)(V): 4.75; DatasheetVersion: SBVS014; PackageVersion: 4202490/B; PackageReference: DUA7; PackageDescription: 7-Pin Plastic Small Outline, Body 6.61 x 19.18 mm; Supplier 1: Digi-Key; Supplier Part Number 1: DCV012405P-U-ND; Supplier 2: Newark; Supplier Part Number 2: 74C9405; Supplier 3: Mouser; Supplier Part Number 3: 595-DCV012405P-U; Eco-Plan: Pb-Free (RoHS); Mounting Technology: Surface Mount; ComponentLink1Description: Manufacturer URL; ComponentLink1URL: http://www.ti.com/; ComponentLink2Description: Datasheet; ComponentLink2URL: http://www.ti.com/general/docs/lit/getliterature.tsp?genericPartNumber=DCV012405&fileType=pdf; ComponentLink3Description: Package Specification; ComponentLink3URL: http://www.ti.com/lit/ml/mpds097a/mpds097a.pdf; ComponentLink4Description: URL Link1; ComponentLink4URL: Samples URL:http://www.ti.com/product/dcv012405#samples
footprint TI-DUA7_N (SOP, 7-Leads, Body 19.18x6.605mm, Pitch 2.54mm, IPC Medium Density)
footprint TI-DUA7_L (SOP, 7-Leads, Body 19.18x6.605mm, Pitch 2.54mm, IPC High Density)
footprint TI-DUA7_M (SOP, 7-Leads, Body 19.18x6.605mm, Pitch 2.54mm, IPC Low Density)
pins: 1 VS (power) "Voltage input", 2 0V (power) "Input side common", 5 0V (power) "Output side common", 6 +VOUT (power) "+Voltage Out", 7 NC "Not connected", 8 SYNCOUT (out) "Unrectified transformer output", 14 SYNCIN (in) "Synchronization pin"

## DCV012415DP
designator U?
Miniature, 1 W, 1500 Vrms Isolated Unregulated DC-DC Converter, -40 to 85 degC, 7-pin DIP (NVA7), Pb-Free (RoHS); Manufacturer: Texas Instruments; PartNumber: DCV012415DP; Iout(Max)(A): 0.033; Regulated Outputs(#): 2; SubFamily: 1 W & 2 W Miniature; Vin(Max)(V): 26.4; Vin(Min)(V): 21.6; Vout(Max)(V): 15.75; Vout(Min)(V): 14.25; DatasheetVersion: SBVS014; PackageVersion: 4202489/B; PackageReference: NVA7; PackageDescription: 7-Pin Plastic In-Line, Body 6.61 x 19.18 mm; Supplier 1: Digi-Key; Supplier Part Number 1: DCV012415DP-ND; Supplier 2: Newark; Supplier Part Number 2: 74C9407; Supplier 3: Mouser; Supplier Part Number 3: 595-DCV012415DP; Eco-Plan: Pb-Free (RoHS); Mounting Technology: Through Hole; Code_JEDEC: MS-001-AA; ComponentLink1Description: Manufacturer URL; ComponentLink1URL: http://www.ti.com/; ComponentLink2Description: Datasheet; ComponentLink2URL: http://www.ti.com/general/docs/lit/getliterature.tsp?genericPartNumber=DCV012415D&fileType=pdf; ComponentLink3Description: Package Specification; ComponentLink3URL: http://www.ti.com/lit/ml/mpdi058a/mpdi058a.pdf; ComponentLink4Description: URL Link1; ComponentLink4URL: Samples URL:http://www.ti.com/product/dcv012415d#samples
footprint TI-NVA7 (DIP, 7-Leads, Body 19.18x6.605mm, Pitch 2.54mm)
pins: 1 VS (power) "Voltage input", 2 0V (power) "Input side common", 5 0V (power) "Output side common", 6 +VOUT (power) "+Voltage out", 7 -VOUT (power) "-Voltage out", 8 SYNCOUT (out) "Unrectified transformer output", 14 SYNCIN (in) "Synchronization pin"

## DCV012415DP-U
designator U?
Miniature, 1 W, 1500 Vrms Isolated Unregulated DC-DC Converter, -40 to 85 degC, 7-pin SOP (DUA7), Pb-Free (RoHS); Manufacturer: Texas Instruments; PartNumber: DCV012415DP-U; Iout(Max)(A): 0.033; Regulated Outputs(#): 2; SubFamily: 1 W & 2 W Miniature; Vin(Max)(V): 26.4; Vin(Min)(V): 21.6; Vout(Max)(V): 15.75; Vout(Min)(V): 14.25; DatasheetVersion: SBVS014; PackageVersion: 4202490/B; PackageReference: DUA7; PackageDescription: 7-Pin Plastic Small Outline, Body 6.61 x 19.18 mm; Supplier 1: Digi-Key; Supplier Part Number 1: DCV012415DP-U-ND; Supplier 2: Newark; Supplier Part Number 2: 74C9408; Supplier 3: Mouser; Supplier Part Number 3: 595-DCV012415DP-U; Eco-Plan: Pb-Free (RoHS); Mounting Technology: Surface Mount; ComponentLink1Description: Manufacturer URL; ComponentLink1URL: http://www.ti.com/; ComponentLink2Description: Datasheet; ComponentLink2URL: http://www.ti.com/general/docs/lit/getliterature.tsp?genericPartNumber=DCV012415D&fileType=pdf; ComponentLink3Description: Package Specification; ComponentLink3URL: http://www.ti.com/lit/ml/mpds097a/mpds097a.pdf; ComponentLink4Description: URL Link1; ComponentLink4URL: Samples URL:http://www.ti.com/product/dcv012415d#samples
footprint TI-DUA7_N (SOP, 7-Leads, Body 19.18x6.605mm, Pitch 2.54mm, IPC Medium Density)
footprint TI-DUA7_L (SOP, 7-Leads, Body 19.18x6.605mm, Pitch 2.54mm, IPC High Density)
footprint TI-DUA7_M (SOP, 7-Leads, Body 19.18x6.605mm, Pitch 2.54mm, IPC Low Density)
pins: 1 VS (power) "Voltage input", 2 0V (power) "Input side common", 5 0V (power) "Output side common", 6 +VOUT (power) "+Voltage out", 7 -VOUT (power) "-Voltage out", 8 SYNCOUT (out) "Unrectified transformer output", 14 SYNCIN (in) "Synchronization pin"

## DCV012415DP-U/700
designator U?
Miniature, 1 W, 1500 Vrms Isolated Unregulated DC-DC Converter, -40 to 85 degC, 7-pin SOP (DUA7), Pb-Free (RoHS); Manufacturer: Texas Instruments; PartNumber: DCV012415DP-U/700; Iout(Max)(A): 0.033; Regulated Outputs(#): 2; SubFamily: 1 W & 2 W Miniature; Vin(Max)(V): 26.4; Vin(Min)(V): 21.6; Vout(Max)(V): 15.75; Vout(Min)(V): 14.25; DatasheetVersion: SBVS014; PackageVersion: 4202490/B; PackageReference: DUA7; PackageDescription: 7-Pin Plastic Small Outline, Body 6.61 x 19.18 mm; Supplier 1: Digi-Key; Supplier Part Number 1: DCV012415DP-UTR-ND; Supplier 2: Digi-Key; Supplier Part Number 2: DCV012415DP-UCT-ND; Supplier 3: Digi-Key; Supplier Part Number 3: DCV012415DP-UDKR-ND; Supplier 4: Newark; Supplier Part Number 4: 74C9409; Supplier 5: Mouser; Supplier Part Number 5: 595-DCV012415DPU/700; Eco-Plan: Pb-Free (RoHS); Mounting Technology: Surface Mount; ComponentLink1Description: Manufacturer URL; ComponentLink1URL: http://www.ti.com/; ComponentLink2Description: Datasheet; ComponentLink2URL: http://www.ti.com/general/docs/lit/getliterature.tsp?genericPartNumber=DCV012415D&fileType=pdf; ComponentLink3Description: Package Specification; ComponentLink3URL: http://www.ti.com/lit/ml/mpds097a/mpds097a.pdf; ComponentLink4Description: URL Link1; ComponentLink4URL: Samples URL:http://www.ti.com/product/tps55010#samples
footprint TI-DUA7_N (SOP, 7-Leads, Body 19.18x6.605mm, Pitch 2.54mm, IPC Medium Density)
footprint TI-DUA7_L (SOP, 7-Leads, Body 19.18x6.605mm, Pitch 2.54mm, IPC High Density)
footprint TI-DUA7_M (SOP, 7-Leads, Body 19.18x6.605mm, Pitch 2.54mm, IPC Low Density)
pins: 1 VS (power) "Voltage input", 2 0V (power) "Input side common", 5 0V (power) "Output side common", 6 +VOUT (power) "+Voltage out", 7 -VOUT (power) "-Voltage out", 8 SYNCOUT (out) "Unrectified transformer output", 14 SYNCIN (in) "Synchronization pin"

## PT78HT205H
designator U?
5 V Vout 2 Amp Wide-Input Positive Step-Down ISR, -40 to 85 degC, 3-pin Module (EFA3), Pb-Free (RoHS); Manufacturer: Texas Instruments; PartNumber: PT78HT205H; Iout(Max)(A): 2; Regulated Outputs(#): 1; SubFamily: Non-Isolated POL; Vin(Max)(V): 28; Vin(Min)(V): 9; Vout(Max)(V): 5; DatasheetVersion: SLTS057B; PackageVersion: 4203861/C; PackageReference: EFA3; PackageDescription: 3-Pin Plastic In-Line, Body 23.87 x 22.86 mm; Supplier 1: Digi-Key; Supplier Part Number 1: PT78HT205H-ND; Supplier 2: Farnell; Supplier Part Number 2: 1213142; Supplier 3: Newark; Supplier Part Number 3: 75C7141; Supplier 4: Mouser; Supplier Part Number 4: 595-PT78HT205H; Eco-Plan: Pb-Free (RoHS); Vout(Min)(V): 5; Mounting Technology: Through Hole; ComponentLink1Description: Manufacturer URL; ComponentLink1URL: http://www.ti.com/; ComponentLink2Description: Datasheet; ComponentLink2URL: http://www.ti.com/general/docs/lit/getliterature.tsp?genericPartNumber=PT78HT205&fileType=pdf; ComponentLink3Description: Package Specification; ComponentLink3URL: http://www.ti.com/lit/ml/mpsi049b/mpsi049b.pdf; ComponentLink4Description: URL Link1; ComponentLink4URL: Samples URL:http://www.ti.com/product/pt78ht205#samples
footprint TI-EFA3_V (Module, 3-Leads, Body 23.87x22.86 mm)
pins: 1 VIN (power), 2 GND (power), 3 VOUT (power)

## PT78HT205S
designator U?
5 V Vout 2 Amp Wide-Input Positive Step-Down ISR, -40 to 85 degC, 3-pin Module (EFC3), Pb-Free (RoHS); Manufacturer: Texas Instruments; PartNumber: PT78HT205S; Iout(Max)(A): 2; Regulated Outputs(#): 1; SubFamily: Non-Isolated POL; Vin(Max)(V): 28; Vin(Min)(V): 9; Vout(Max)(V): 5; DatasheetVersion: SLTS057B; PackageVersion: 4203862/C; PackageReference: EFC3; PackageDescription: 3-Pin Plastic In-Line, Body 23.87 x 22.86 mm; Supplier 1: Digi-Key; Supplier Part Number 1: PT78HT205S-ND; Supplier 2: Newark; Supplier Part Number 2: 23C9539; Supplier 3: Mouser; Supplier Part Number 3: 595-PT78HT205S; Eco-Plan: Pb-Free (RoHS); Vout(Min)(V): 5; Mounting Technology: Surface Mount; ComponentLink1Description: Manufacturer URL; ComponentLink1URL: http://www.ti.com/; ComponentLink2Description: Datasheet; ComponentLink2URL: http://www.ti.com/general/docs/lit/getliterature.tsp?genericPartNumber=PT78HT205&fileType=pdf; ComponentLink3Description: Package Specification; ComponentLink3URL: http://www.ti.com/lit/ml/mpsi050b/mpsi050b.pdf; ComponentLink4Description: URL Link1; ComponentLink4URL: Samples URL:http://www.ti.com/product/pt78ht205#samples
footprint TI-EFC3_V (3-Leads Plastic In-Line, Body 22.86x23.87mm)
pins: 1 VIN (power), 2 GND (power), 3 VOUT (power)

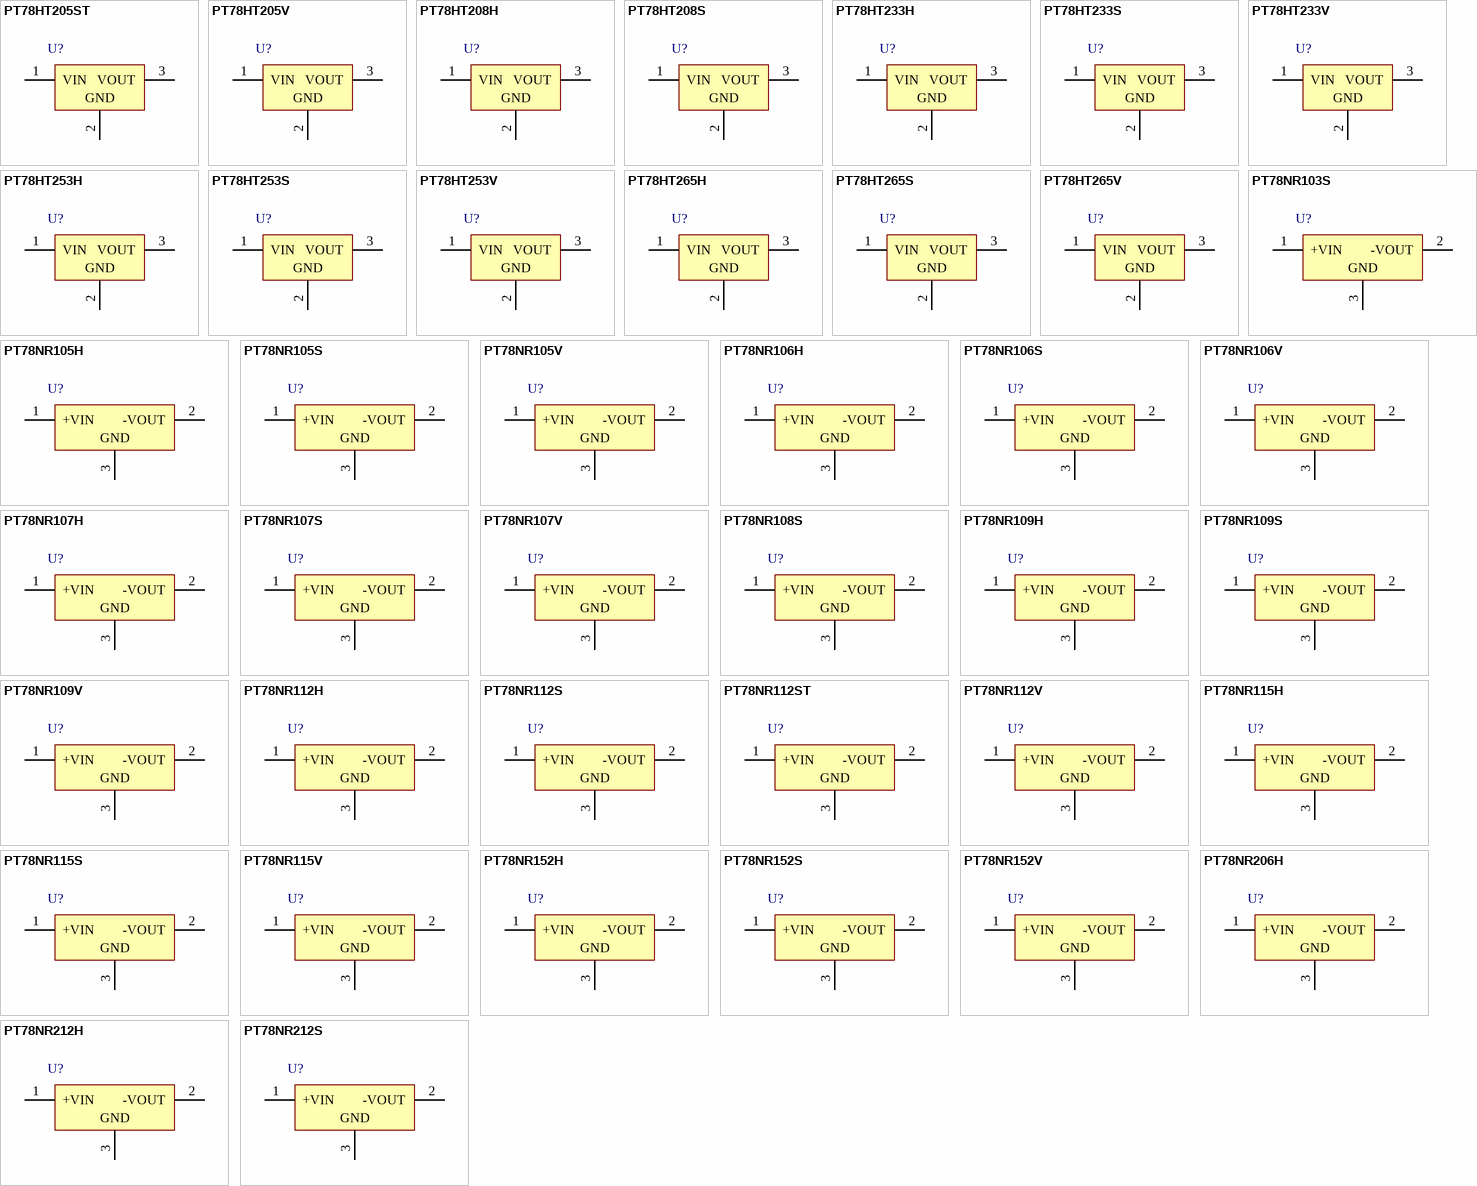
[diagram p4: symbols PT78HT205ST to PT78NR212S]

## PT78HT205ST
designator U?
5 V Vout 2 Amp Wide-Input Positive Step-Down ISR, -40 to 85 degC, 3-pin Module (EFC3), Pb-Free (RoHS); Manufacturer: Texas Instruments; PartNumber: PT78HT205ST; Iout(Max)(A): 2; Regulated Outputs(#): 1; SubFamily: Non-Isolated POL; Vin(Max)(V): 28; Vin(Min)(V): 9; Vout(Max)(V): 5; DatasheetVersion: SLTS057B; PackageVersion: 4203862/C; PackageReference: EFC3; PackageDescription: 3-Pin Plastic In-Line, Body 23.87 x 22.86 mm; Supplier 1: Digi-Key; Supplier Part Number 1: PT78HT205ST-ND; Supplier 2: Newark; Supplier Part Number 2: 75C7142; Supplier 3: Mouser; Supplier Part Number 3: 595-PT78HT205ST; Eco-Plan: Pb-Free (RoHS); Vout(Min)(V): 5; Mounting Technology: Surface Mount; ComponentLink1Description: Manufacturer URL; ComponentLink1URL: http://www.ti.com/; ComponentLink2Description: Datasheet; ComponentLink2URL: http://www.ti.com/general/docs/lit/getliterature.tsp?genericPartNumber=PT78HT205&fileType=pdf; ComponentLink3Description: Package Specification; ComponentLink3URL: http://www.ti.com/lit/ml/mpsi050b/mpsi050b.pdf; ComponentLink4Description: URL Link1; ComponentLink4URL: Samples URL:http://www.ti.com/product/pt78ht205#samples
footprint TI-EFC3_V (3-Leads Plastic In-Line, Body 22.86x23.87mm)
pins: 1 VIN (power), 2 GND (power), 3 VOUT (power)

## PT78HT205V
designator U?
5 V Vout 2 Amp Wide-Input Positive Step-Down ISR, -40 to 85 degC, 3-pin Module (EFD3), Pb-Free (RoHS); Manufacturer: Texas Instruments; PartNumber: PT78HT205V; Iout(Max)(A): 2; Regulated Outputs(#): 1; SubFamily: Non-Isolated POL; Vin(Max)(V): 28; Vin(Min)(V): 9; Vout(Max)(V): 5; DatasheetVersion: SLTS057B; PackageVersion: 4203860/A; PackageReference: EFD3; PackageDescription: 3-Pin Plastic In-Line, Body 23.87 x 22.86 mm; Supplier 1: Digi-Key; Supplier Part Number 1: PT78HT205V-ND; Supplier 2: Farnell; Supplier Part Number 2: 1213144; Supplier 3: Newark; Supplier Part Number 3: 35C0584; Supplier 4: Mouser; Supplier Part Number 4: 595-PT78HT205V; Eco-Plan: Pb-Free (RoHS); Vout(Min)(V): 5; Mounting Technology: Through Hole; ComponentLink1Description: Manufacturer URL; ComponentLink1URL: http://www.ti.com/; ComponentLink2Description: Datasheet; ComponentLink2URL: http://www.ti.com/general/docs/lit/getliterature.tsp?genericPartNumber=PT78HT205&fileType=pdf; ComponentLink3Description: Package Specification; ComponentLink3URL: http://www.ti.com/lit/ml/mpsi048/mpsi048.pdf; ComponentLink4Description: URL Link1; ComponentLink4URL: Samples URL:http://www.ti.com/product/pt78ht205#samples
footprint TI-EFD3_V (Module, 3-Leads, Body 22.86x7.87mm)
pins: 1 VIN (power), 2 GND (power), 3 VOUT (power)

## PT78HT208H
designator U?
8 V Vout 2 Amp Wide-Input Positive Step-Down ISR, -40 to 85 degC, 3-pin Module (EFA3), Pb-Free (RoHS); Manufacturer: Texas Instruments; PartNumber: PT78HT208H; Iout(Max)(A): 2; Regulated Outputs(#): 1; SubFamily: Non-Isolated POL; Vin(Max)(V): 28; Vin(Min)(V): 12; Vout(Max)(V): 8; DatasheetVersion: SLTS057B; PackageVersion: 4203861/C; PackageReference: EFA3; PackageDescription: 3-Pin Plastic In-Line, Body 23.87 x 22.86 mm; Supplier 1: Digi-Key; Supplier Part Number 1: 296-20250-ND; Supplier 2: Newark; Supplier Part Number 2: 34C7780; Supplier 3: Mouser; Supplier Part Number 3: 595-PT78HT208H; Eco-Plan: Pb-Free (RoHS); Vout(Min)(V): 8; Mounting Technology: Through Hole; ComponentLink1Description: Manufacturer URL; ComponentLink1URL: http://www.ti.com/; ComponentLink2Description: Datasheet; ComponentLink2URL: http://www.ti.com/general/docs/lit/getliterature.tsp?genericPartNumber=PT78HT208&fileType=pdf; ComponentLink3Description: Package Specification; ComponentLink3URL: http://www.ti.com/lit/ml/mpsi049b/mpsi049b.pdf; ComponentLink4Description: URL Link1; ComponentLink4URL: Samples URL:http://www.ti.com/product/pt78ht208#samples
footprint TI-EFA3_V (Module, 3-Leads, Body 23.87x22.86 mm)
pins: 1 VIN (power), 2 GND (power), 3 VOUT (power)

## PT78HT208S
designator U?
8 V Vout 2 Amp Wide-Input Positive Step-Down ISR, -40 to 85 degC, 3-pin Module (EFC3), Pb-Free (RoHS); Manufacturer: Texas Instruments; PartNumber: PT78HT208S; Iout(Max)(A): 2; Regulated Outputs(#): 1; SubFamily: Non-Isolated POL; Vin(Max)(V): 28; Vin(Min)(V): 12; Vout(Max)(V): 8; DatasheetVersion: SLTS057B; PackageVersion: 4203862/C; PackageReference: EFC3; PackageDescription: 3-Pin Plastic In-Line, Body 23.87 x 22.86 mm; Supplier 1: Digi-Key; Supplier Part Number 1: 296-20251-ND; Supplier 2: Newark; Supplier Part Number 2: 75C7144; Supplier 3: Mouser; Supplier Part Number 3: 595-PT78HT208S; Eco-Plan: Pb-Free (RoHS); Vout(Min)(V): 8; Mounting Technology: Surface Mount; ComponentLink1Description: Manufacturer URL; ComponentLink1URL: http://www.ti.com/; ComponentLink2Description: Datasheet; ComponentLink2URL: http://www.ti.com/general/docs/lit/getliterature.tsp?genericPartNumber=PT78HT208&fileType=pdf; ComponentLink3Description: Package Specification; ComponentLink3URL: http://www.ti.com/lit/ml/mpsi050b/mpsi050b.pdf; ComponentLink4Description: URL Link1; ComponentLink4URL: Samples URL:http://www.ti.com/product/pt78ht208#samples
footprint TI-EFC3_V (3-Leads Plastic In-Line, Body 22.86x23.87mm)
pins: 1 VIN (power), 2 GND (power), 3 VOUT (power)

## PT78HT233H
designator U?
3.3 V Vout 2 Amp Wide-Input Positive Step-Down ISR, -40 to 85 degC, 3-pin Module (EFA3), Pb-Free (RoHS); Manufacturer: Texas Instruments; PartNumber: PT78HT233H; Iout(Max)(A): 2; Regulated Outputs(#): 1; SubFamily: Non-Isolated POL; Vin(Max)(V): 15; Vin(Min)(V): 9; Vout(Max)(V): 3.3; DatasheetVersion: SLTS057B; PackageVersion: 4203861/C; PackageReference: EFA3; PackageDescription: 3-Pin Plastic In-Line, Body 23.87 x 22.86 mm; Supplier 1: Digi-Key; Supplier Part Number 1: PT78HT233H-ND; Supplier 2: Newark; Supplier Part Number 2: 75C7146; Supplier 3: Mouser; Supplier Part Number 3: 595-PT78HT233H; Eco-Plan: Pb-Free (RoHS); Vout(Min)(V): 3.3; Mounting Technology: Through Hole; ComponentLink1Description: Manufacturer URL; ComponentLink1URL: http://www.ti.com/; ComponentLink2Description: Datasheet; ComponentLink2URL: http://www.ti.com/general/docs/lit/getliterature.tsp?genericPartNumber=PT78HT233&fileType=pdf; ComponentLink3Description: Package Specification; ComponentLink3URL: http://www.ti.com/lit/ml/mpsi049b/mpsi049b.pdf; ComponentLink4Description: URL Link1; ComponentLink4URL: Samples URL:http://www.ti.com/product/pt78ht233#samples
footprint TI-EFA3_V (Module, 3-Leads, Body 23.87x22.86 mm)
pins: 1 VIN (power), 2 GND (power), 3 VOUT (power)

## PT78HT233S
designator U?
3.3 V Vout 2 Amp Wide-Input Positive Step-Down ISR, -40 to 85 degC, 3-pin Module (EFC3), Pb-Free (RoHS); Manufacturer: Texas Instruments; PartNumber: PT78HT233S; Iout(Max)(A): 2; Regulated Outputs(#): 1; SubFamily: Non-Isolated POL; Vin(Max)(V): 15; Vin(Min)(V): 9; Vout(Max)(V): 3.3; DatasheetVersion: SLTS057B; PackageVersion: 4203862/C; PackageReference: EFC3; PackageDescription: 3-Pin Plastic In-Line, Body 23.87 x 22.86 mm; Supplier 1: Digi-Key; Supplier Part Number 1: PT78HT233S-ND; Supplier 2: Farnell; Supplier Part Number 2: 1213145; Supplier 3: Newark; Supplier Part Number 3: 75C7147; Supplier 4: Mouser; Supplier Part Number 4: 595-PT78HT233S; Eco-Plan: Pb-Free (RoHS); Vout(Min)(V): 3.3; Mounting Technology: Surface Mount; ComponentLink1Description: Manufacturer URL; ComponentLink1URL: http://www.ti.com/; ComponentLink2Description: Datasheet; ComponentLink2URL: http://www.ti.com/general/docs/lit/getliterature.tsp?genericPartNumber=PT78HT233&fileType=pdf; ComponentLink3Description: Package Specification; ComponentLink3URL: http://www.ti.com/lit/ml/mpsi050b/mpsi050b.pdf; ComponentLink4Description: URL Link1; ComponentLink4URL: Samples URL:http://www.ti.com/product/pt78ht233#samples
footprint TI-EFC3_V (3-Leads Plastic In-Line, Body 22.86x23.87mm)
pins: 1 VIN (power), 2 GND (power), 3 VOUT (power)

## PT78HT233V
designator U?
3.3 V Vout 2 Amp Wide-Input Positive Step-Down ISR, -40 to 85 degC, 3-pin Module (EFD3), Pb-Free (RoHS); Manufacturer: Texas Instruments; PartNumber: PT78HT233V; Iout(Max)(A): 2; Regulated Outputs(#): 1; SubFamily: Non-Isolated POL; Vin(Max)(V): 15; Vin(Min)(V): 9; Vout(Max)(V): 3.3; DatasheetVersion: SLTS057B; PackageVersion: 4203860/A; PackageReference: EFD3; PackageDescription: 3-Pin Plastic In-Line, Body 23.87 x 22.86 mm; Supplier 1: Digi-Key; Supplier Part Number 1: 296-32699-ND; Supplier 2: Newark; Supplier Part Number 2: 75C7149; Supplier 3: Mouser; Supplier Part Number 3: 595-PT78HT233V; Eco-Plan: Pb-Free (RoHS); Vout(Min)(V): 3.3; Mounting Technology: Through Hole; ComponentLink1Description: Manufacturer URL; ComponentLink1URL: http://www.ti.com/; ComponentLink2Description: Datasheet; ComponentLink2URL: http://www.ti.com/general/docs/lit/getliterature.tsp?genericPartNumber=PT78HT233&fileType=pdf; ComponentLink3Description: Package Specification; ComponentLink3URL: http://www.ti.com/lit/ml/mpsi048/mpsi048.pdf; ComponentLink4Description: URL Link1; ComponentLink4URL: Samples URL:http://www.ti.com/product/tps55010#samples
footprint TI-EFD3_V (Module, 3-Leads, Body 22.86x7.87mm)
pins: 1 VIN (power), 2 GND (power), 3 VOUT (power)

## PT78HT253H
designator U?
5.25 V Vout 2 Amp Wide-Input Positive Step-Down ISR, -40 to 85 degC, 3-pin Module (EFA3), Pb-Free (RoHS); Manufacturer: Texas Instruments; PartNumber: PT78HT253H; Iout(Max)(A): 2; Regulated Outputs(#): 1; SubFamily: Non-Isolated POL; Vin(Max)(V): 28; Vin(Min)(V): 9.25; Vout(Max)(V): 5.25; DatasheetVersion: SLTS057B; PackageVersion: 4203861/C; PackageReference: EFA3; PackageDescription: 3-Pin Plastic In-Line, Body 23.87 x 22.86 mm; Supplier 1: Digi-Key; Supplier Part Number 1: 296-20252-ND; Supplier 2: Newark; Supplier Part Number 2: 75C7152; Supplier 3: Mouser; Supplier Part Number 3: 595-PT78HT253H; Eco-Plan: Pb-Free (RoHS); Vout(Min)(V): 5.25; Mounting Technology: Through Hole; ComponentLink1Description: Manufacturer URL; ComponentLink1URL: http://www.ti.com/; ComponentLink2Description: Datasheet; ComponentLink2URL: http://www.ti.com/general/docs/lit/getliterature.tsp?genericPartNumber=PT78HT253&fileType=pdf; ComponentLink3Description: Package Specification; ComponentLink3URL: http://www.ti.com/lit/ml/mpsi049b/mpsi049b.pdf; ComponentLink4Description: URL Link1; ComponentLink4URL: Samples URL:http://www.ti.com/product/pt78ht253#samples
footprint TI-EFA3_V (Module, 3-Leads, Body 23.87x22.86 mm)
pins: 1 VIN (power), 2 GND (power), 3 VOUT (power)